# Altium footprint library SparkFun-DigitalIC.PCBLIB: 112 footprints (part 6 of 7)
Each footprint in its own frame and in the unit in brackets; x right, y up, seen from the top. Pads: shape width x height; smd on the part's side, far side on the other; paste and mask are expansions set on the pad; w line width, h text height; cw(c..) or ccw(c..) is an arc to the next point about the centre after c.
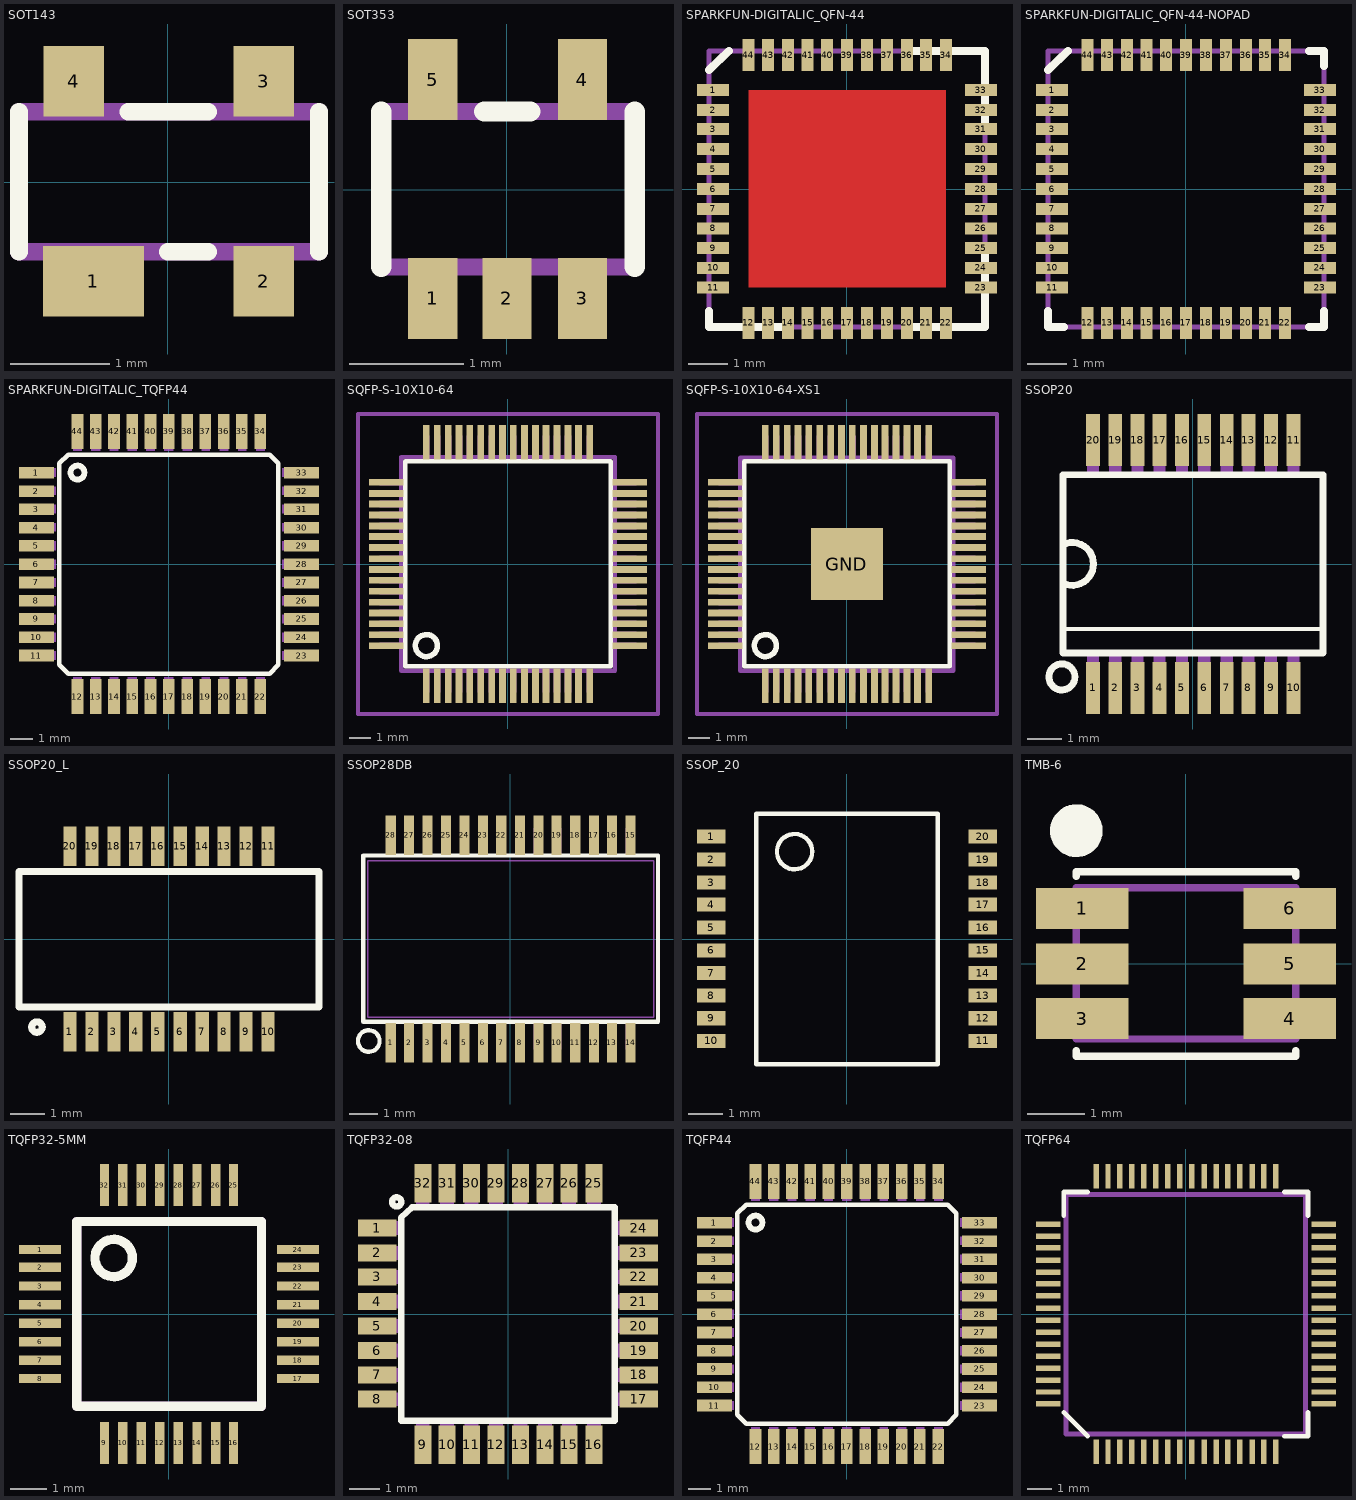
[diagram p5: the footprints below, top view; thin cyan lines are the x and y axes]

## SOT143 [mil]
pads (4):
  rect 40x28 smd: 1(-29.53,-39.37)
  rect 24x28 smd: 2(38,-39.37) 3(38,40) 4(-37.4,40)
Top Overlay:
  lines w7: -59.06,-27.56 -59.06,28 ; -15.75,28 16,28 ; 0,-27.56 16,-27.56 ; 60,-27.56 60,28
Mechanical 2:
  text ">Name" at -50,2 h24.8
Mechanical 4:
  text ">Value" at -50,-17.87 h24.8
Mechanical 16:
  lines w7: -59.06,-27.56 -59.06,28 60,28 60,-27.56 -59.06,-27.56

## SOT353 [mil]
pads (5):
  rect 17x28 smd: 1(-25.59,-37.4) 2(0,-37.4) 3(26,-37.4) 4(26,38) 5(-25.59,38)
Top Overlay:
  lines w7: -43.31,-26.57 -43.31,27 ; -7.87,27 8,27 ; 44,-26.57 44,27
Mechanical 2:
  text ">Name" at -50,-30 h24.8
Mechanical 4:
  text ">Value" at 65,-30 h24.8
Mechanical 16:
  rectangle: 20,28 32,44
  rectangle: -31.5,28 -19.68,44
  region: 32,-27.56 20,-27.56 20,-43.31 32,-43.31
  region: 6,-27.56 -5.91,-27.56 -5.91,-43.31 6,-43.31
  region: -19.69,-27.56 -31.5,-27.56 -31.5,-43.31 -19.69,-43.31
  lines w6: -43.31,-26.57 -43.31,27 44,27 44,-26.57 -43.31,-26.57

## SPARKFUN-DIGITALIC_QFN-44 [mil]
pads (44):
  rect 32x12 smd: 1(-133.86,99) 2(-133.86,79) 3(-133.86,60) 4(-133.86,40) 5(-133.86,20) 6(-133.86,0) 7(-133.86,-19.68) 8(-133.86,-39.37) 9(-133.86,-59.06) 10(-133.86,-78.74) 11(-133.86,-98.43) 23(134,-98.43) 24(134,-78.74) 25(134,-59.06) 26(134,-39.37) 27(134,-19.68) 28(134,0) 29(134,20) 30(134,40) 31(134,60) 32(134,79) 33(134,99)
  rect 12x32 smd: 12(-98.43,-133.86) 13(-78.74,-133.86) 14(-59.06,-133.86) 15(-39.37,-133.86) 16(-19.68,-133.86) 17(0,-133.86) 18(20,-133.86) 19(40,-133.86) 20(60,-133.86) 21(79,-133.86) 22(99,-133.86) 34(99,134) 35(79,134) 36(60,134) 37(40,134) 38(20,134) 39(0,134) 40(-19.68,134) 41(-39.37,134) 42(-59.06,134) 43(-78.74,134) 44(-98.43,134)
Top Layer:
  rectangle: -98.43,-98.43 99,99
Top Overlay:
  lines w8: -137.8,-122.05 -137.8,-137.8 -64.96,-137.8 ; -137.8,119 -118.11,138 ; 65,-137.8 138,-137.8 138,-64.96 ; 65,138 138,138 138,65
Top Solder:
  rectangle: -19.68,-19.68 20,20
Mechanical 2:
  text ">NAME" at -96.46,189 h77.5
Mechanical 4:
  text ">VALUE" at -98.43,-242.13 h77.5
Mechanical 16:
  lines w5: -137.8,-137.8 -137.8,138 138,138 138,-137.8 -133.86,-137.8

## SPARKFUN-DIGITALIC_QFN-44-NOPAD [mil]
pads (44):
  rect 32x12 smd: 1(-133.86,99) 2(-133.86,79) 3(-133.86,60) 4(-133.86,40) 5(-133.86,20) 6(-133.86,0) 7(-133.86,-19.68) 8(-133.86,-39.37) 9(-133.86,-59.06) 10(-133.86,-78.74) 11(-133.86,-98.43) 23(134,-98.43) 24(134,-78.74) 25(134,-59.06) 26(134,-39.37) 27(134,-19.68) 28(134,0) 29(134,20) 30(134,40) 31(134,60) 32(134,79) 33(134,99)
  rect 12x32 smd: 12(-98.43,-133.86) 13(-78.74,-133.86) 14(-59.06,-133.86) 15(-39.37,-133.86) 16(-19.68,-133.86) 17(0,-133.86) 18(20,-133.86) 19(40,-133.86) 20(60,-133.86) 21(79,-133.86) 22(99,-133.86) 34(99,134) 35(79,134) 36(60,134) 37(40,134) 38(20,134) 39(0,134) 40(-19.68,134) 41(-39.37,134) 42(-59.06,134) 43(-78.74,134) 44(-98.43,134)
Top Overlay:
  lines w8: -137.8,-122.05 -137.8,-137.8 -122.05,-137.8 ; -137.8,119 -118.11,138 ; 123,-137.8 138,-137.8 138,-122.05 ; 123,138 138,138 138,123
Mechanical 2:
  text ">NAME" at -96.46,189 h77.5
Mechanical 4:
  text ">VALUE" at -98.43,-242.13 h77.5
Mechanical 16:
  lines w5: -137.8,-137.8 -137.8,138 138,138 138,-137.8 -133.86,-137.8

## SPARKFUN-DIGITALIC_TQFP44 [mil]
pads (44):
  rect 60x20 smd: 1(-228.35,158) 2(-228.35,126) 3(-228.35,95) 4(-228.35,63) 5(-228.35,32) 6(-228.35,0) 7(-228.35,-31.5) 8(-228.35,-62.99) 9(-228.35,-94.49) 10(-228.35,-125.98) 11(-228.35,-157.48) 23(229,-157.48) 24(229,-125.98) 25(229,-94.49) 26(229,-62.99) 27(229,-31.5) 28(229,0) 29(229,32) 30(229,63) 31(229,95) 32(229,126) 33(229,158)
  rect 20x60 smd: 12(-157.48,-228.35) 13(-125.98,-228.35) 14(-94.49,-228.35) 15(-62.99,-228.35) 16(-31.5,-228.35) 17(0,-228.35) 18(32,-228.35) 19(63,-228.35) 20(95,-228.35) 21(126,-228.35) 22(158,-228.35) 34(158,229) 35(126,229) 36(95,229) 37(63,229) 38(32,229) 39(0,229) 40(-31.5,229) 41(-62.99,229) 42(-94.49,229) 43(-125.98,229) 44(-157.48,229)
Top Overlay:
  circle w10: c-157.48,158 r12
  lines w8: -188.98,-173.23 -173.23,-188.98 174,-188.98 189,-173.23 189,174 174,189 -173.23,189 -188.98,174 -188.98,-173.23
Mechanical 2:
  text ">NAME" at -160,110 h24.8
Mechanical 4:
  text ">VALUE" at -160,-160 h24.8
Mechanical 16:
  rectangle: -240.16,150 -194.88,166
  rectangle: -240.16,119 -194.88,134
  rectangle: -240.16,87 -194.88,103
  rectangle: -240.16,56 -194.88,71
  rectangle: -240.16,24 -194.88,40
  rectangle: -240.16,-7.87 -194.88,8
  rectangle: -240.16,-39.37 -194.88,-23.62
  rectangle: -240.16,-70.87 -194.88,-55.12
  rectangle: -240.16,-102.36 -194.88,-86.61
  rectangle: -240.16,-133.86 -194.88,-118.11
  rectangle: -240.16,-165.35 -194.88,-149.61
  rectangle: -165.35,-240.16 -149.61,-194.88
  rectangle: -133.86,-240.16 -118.11,-194.88
  rectangle: -102.36,-240.16 -86.61,-194.88
  rectangle: -70.87,-240.16 -55.12,-194.88
  rectangle: -39.37,-240.16 -23.62,-194.88
  rectangle: -7.87,-240.16 8,-194.88
  rectangle: 24,-240.16 40,-194.88
  rectangle: 56,-240.16 71,-194.88
  rectangle: 87,-240.16 103,-194.88
  rectangle: 119,-240.16 134,-194.88
  rectangle: 150,-240.16 166,-194.88
  rectangle: 195,-165.35 241,-149.61
  rectangle: 195,-133.86 241,-118.11
  rectangle: 195,-102.36 241,-86.61
  rectangle: 195,-70.87 241,-55.12
  rectangle: 195,-39.37 241,-23.62
  rectangle: 195,-7.87 241,8
  rectangle: 195,24 241,40
  rectangle: 195,56 241,71
  rectangle: 195,87 241,103
  rectangle: 195,119 241,134
  rectangle: 195,150 241,166
  rectangle: 150,195 166,241
  rectangle: 119,195 134,241
  rectangle: 87,195 103,241
  rectangle: 56,195 71,241
  rectangle: 24,195 40,241
  rectangle: -7.87,195 8,241
  rectangle: -39.37,195 -23.62,241
  rectangle: -70.87,195 -55.12,241
  rectangle: -102.36,195 -86.61,241
  rectangle: -133.86,195 -118.11,241
  rectangle: -165.35,195 -149.61,241

## SQFP-S-10X10-64 [mil]
pads (64):
  rect 12x63 smd: 1(-147.64,-220.47) 2(-127.95,-220.47) 3(-108.27,-220.47) 4(-88.58,-220.47) 5(-68.9,-220.47) 6(-49.21,-220.47) 7(-29.53,-220.47) 8(-9.84,-220.47) 9(10,-220.47) 10(30,-220.47) 11(50,-220.47) 12(69,-220.47) 13(89,-220.47) 14(109,-220.47) 15(128,-220.47) 16(148,-220.47) 33(148,221) 34(128,221) 35(109,221) 36(89,221) 37(69,221) 38(50,221) 39(30,221) 40(10,221) 41(-9.84,221) 42(-29.53,221) 43(-49.21,221) 44(-68.9,221) 45(-88.58,221) 46(-108.27,221) 47(-127.95,221) 48(-147.64,221)
  rect 63x12 smd: 17(221,-147.64) 18(221,-127.95) 19(221,-108.27) 20(221,-88.58) 21(221,-68.9) 22(221,-49.21) 23(221,-29.53) 24(221,-9.84) 25(221,10) 26(221,30) 27(221,50) 28(221,69) 29(221,89) 30(221,109) 31(221,128) 32(221,148) 49(-220.47,148) 50(-220.47,128) 51(-220.47,109) 52(-220.47,89) 53(-220.47,69) 54(-220.47,50) 55(-220.47,30) 56(-220.47,10) 57(-220.47,-9.84) 58(-220.47,-29.53) 59(-220.47,-49.21) 60(-220.47,-68.9) 61(-220.47,-88.58) 62(-220.47,-108.27) 63(-220.47,-127.95) 64(-220.47,-147.64)
Top Overlay:
  circle w10: c-147.64,-147.64 r20
  lines w8: -185.83,-185.43 186,-185.43 186,186 -185.83,186 -185.83,-185.43
Top Paste:
  rectangle: -238.9,143 -198.7,153
  rectangle: -248.3,123 -208.1,134
  rectangle: -238.9,103 -198.7,114
  rectangle: -248.3,84 -208.1,94
  rectangle: -238.9,64 -198.7,75
  rectangle: -248.3,44 -208.1,55
  rectangle: -238.9,25 -198.7,36
  rectangle: -248.3,5 -208.1,16
  rectangle: -238.9,-15.2 -198.7,-4.5
  rectangle: -248.3,-34.9 -208.1,-24.2
  rectangle: -238.9,-54.5 -198.7,-43.8
  rectangle: -248.3,-74.2 -208.1,-63.5
  rectangle: -238.9,-93.9 -198.7,-83.2
  rectangle: -248.3,-113.6 -208.1,-102.9
  rectangle: -238.9,-133.2 -198.7,-122.5
  rectangle: -248.3,-152.9 -208.1,-142.2
  rectangle: 209,143 249,153
  rectangle: 199,123 239,134
  rectangle: 209,103 249,114
  rectangle: 199,84 239,94
  rectangle: 209,64 249,75
  rectangle: 199,44 239,55
  rectangle: 209,25 249,35
  rectangle: 199,5 239,16
  rectangle: 209,-15.3 249,-4.6
  rectangle: 199,-35 239,-24.3
  rectangle: 209,-54.6 249,-43.9
  rectangle: 199,-74.3 239,-63.6
  rectangle: 209,-94 249,-83.3
  rectangle: 199,-113.7 239,-103
  rectangle: 209,-133.3 249,-122.6
  rectangle: 199,-153 239,-142.3
  region: -142.55,208.9 -142.55,249.1 -152.55,249.1 -152.55,208.9
  region: -122.35,199.4 -122.35,239.6 -133.35,239.6 -133.35,199.4
  region: -103.15,208.9 -103.15,249.1 -113.15,249.1 -113.15,208.9
  region: -82.95,199.4 -82.95,239.6 -93.95,239.6 -93.95,199.4
  region: -63.85,208.9 -63.85,249.1 -73.85,249.1 -73.85,208.9
  region: -43.65,199.4 -43.65,239.6 -54.65,239.6 -54.65,199.4
  region: -24.65,208.9 -24.65,249.1 -34.65,249.1 -34.65,208.9
  region: -4.02,198.98 -4.02,240.02 -15.02,240.02 -15.02,198.98
  region: 15.43,208.43 15.43,249.57 5.43,249.57 5.43,208.43
  region: 35.5,199.5 35.5,239.5 24.5,239.5 24.5,199.5
  region: 55,209 55,249 45,249 45,209
  region: 75,199 75,240 64,240 64,199
  region: 94,209 94,249 84,249 84,209
  region: 114.5,199.5 114.5,239.5 103.5,239.5 103.5,199.5
  region: 133.5,208.5 133.5,249.5 123.5,249.5 123.5,208.5
  region: 153.5,199.5 153.5,239.5 142.5,239.5 142.5,199.5
  region: -142.3,-237.5 -142.3,-197.3 -153,-197.3 -153,-237.5
  region: -122.6,-246.9 -122.6,-206.7 -133.3,-206.7 -133.3,-246.9
  region: -102.9,-237.5 -102.9,-197.3 -113.6,-197.3 -113.6,-237.5
  region: -83.2,-246.9 -83.2,-206.7 -93.9,-206.7 -93.9,-246.9
  region: -63.6,-237.5 -63.6,-197.3 -74.3,-197.3 -74.3,-237.5
  region: -43.9,-246.9 -43.9,-206.7 -54.6,-206.7 -54.6,-246.9
  region: -24.4,-237.5 -24.4,-197.3 -35.1,-197.3 -35.1,-237.5
  region: -4.22,-247.37 -4.22,-206.23 -14.92,-206.23 -14.92,-247.37
  region: 15.23,-237.53 15.23,-197.28 4.53,-197.28 4.53,-237.53
  region: 35.35,-246.8 35.35,-206.8 24.65,-206.8 24.65,-246.8
  region: 55.35,-237.4 55.35,-197.4 44.65,-197.4 44.65,-237.4
  region: 74.35,-246.8 74.35,-206.8 63.65,-206.8 63.65,-246.8
  region: 94.35,-237.4 94.35,-197.4 83.65,-197.4 83.65,-237.4
  region: 114.35,-246.8 114.35,-206.8 103.65,-206.8 103.65,-246.8
  region: 133.35,-237.4 133.35,-197.4 122.65,-197.4 122.65,-237.4
  region: 153.35,-246.8 153.35,-206.8 142.65,-206.8 142.65,-246.8
Mechanical 2:
  text ">NAME" at -150,-50 h24.8
Mechanical 4:
  text ">VALUE" at -150,50 h24.8
Mechanical 16:
  rectangle: -153.54,-232.28 -141.73,-194.88
  rectangle: -133.86,-232.28 -122.05,-194.88
  rectangle: -114.17,-232.28 -102.36,-194.88
  rectangle: -94.49,-232.28 -82.68,-194.88
  rectangle: -74.8,-232.28 -62.99,-194.88
  rectangle: -55.12,-232.28 -43.31,-194.88
  rectangle: -35.43,-232.28 -23.62,-194.88
  rectangle: -15.75,-232.28 -3.94,-194.88
  rectangle: 4,-232.28 16,-194.88
  rectangle: 24,-232.28 36,-194.88
  rectangle: 44,-232.28 56,-194.88
  rectangle: 63,-232.28 75,-194.88
  rectangle: 83,-232.28 95,-194.88
  rectangle: 103,-232.28 115,-194.88
  rectangle: 123,-232.28 134,-194.88
  rectangle: 142,-232.28 154,-194.88
  rectangle: 195,-153.54 233,-141.73
  rectangle: 195,-133.86 233,-122.05
  rectangle: 195,-114.17 233,-102.36
  rectangle: 195,-94.49 233,-82.68
  rectangle: 195,-74.8 233,-62.99
  rectangle: 195,-55.12 233,-43.31
  rectangle: 195,-35.43 233,-23.62
  rectangle: 195,-15.75 233,-3.94
  rectangle: 195,4 233,16
  rectangle: 195,24 233,36
  rectangle: 195,44 233,56
  rectangle: 195,63 233,75
  rectangle: 195,83 233,95
  rectangle: 195,103 233,115
  rectangle: 195,123 233,134
  rectangle: 195,142 233,154
  rectangle: 142,195 154,233
  rectangle: 123,195 134,233
  rectangle: 103,195 115,233
  rectangle: 83,195 95,233
  rectangle: 63,195 75,233
  rectangle: 44,195 56,233
  rectangle: 24,195 36,233
  rectangle: 4,195 16,233
  rectangle: -15.75,195 -3.94,233
  rectangle: -35.43,195 -23.62,233
  rectangle: -55.12,195 -43.31,233
  rectangle: -74.8,195 -62.99,233
  rectangle: -94.49,195 -82.68,233
  rectangle: -114.17,195 -102.36,233
  rectangle: -133.86,195 -122.05,233
  rectangle: -153.54,195 -141.73,233
  rectangle: -232.28,142 -194.88,154
  rectangle: -232.28,123 -194.88,134
  rectangle: -232.28,103 -194.88,115
  rectangle: -232.28,83 -194.88,95
  rectangle: -232.28,63 -194.88,75
  rectangle: -232.28,44 -194.88,56
  rectangle: -232.28,24 -194.88,36
  rectangle: -232.28,4 -194.88,16
  rectangle: -232.28,-15.75 -194.88,-3.94
  rectangle: -232.28,-35.43 -194.88,-23.62
  rectangle: -232.28,-55.12 -194.88,-43.31
  rectangle: -232.28,-74.8 -194.88,-62.99
  rectangle: -232.28,-94.49 -194.88,-82.68
  rectangle: -232.28,-114.17 -194.88,-102.36
  rectangle: -232.28,-133.86 -194.88,-122.05
  rectangle: -232.28,-153.54 -194.88,-141.73
  lines w8: -193.31,-193.31 194,-193.31 194,194 -193.31,194 -193.31,-193.31
Mechanical 27:
  lines w8: -271.65,-271.65 -271.65,272 272,272 272,-271.65 -271.65,-271.65

## SQFP-S-10X10-64-XS1 [mil]
pads (65):
  rect 12x63 smd: 1(-147.64,-220.47) 2(-127.95,-220.47) 3(-108.27,-220.47) 4(-88.58,-220.47) 5(-68.9,-220.47) 6(-49.21,-220.47) 7(-29.53,-220.47) 8(-9.84,-220.47) 9(10,-220.47) 10(30,-220.47) 11(50,-220.47) 12(69,-220.47) 13(89,-220.47) 14(109,-220.47) 15(128,-220.47) 16(148,-220.47) 33(148,221) 34(128,221) 35(109,221) 36(89,221) 37(69,221) 38(50,221) 39(30,221) 40(10,221) 41(-9.84,221) 42(-29.53,221) 43(-49.21,221) 44(-68.9,221) 45(-88.58,221) 46(-108.27,221) 47(-127.95,221) 48(-147.64,221)
  rect 63x12 smd: 17(221,-147.64) 18(221,-127.95) 19(221,-108.27) 20(221,-88.58) 21(221,-68.9) 22(221,-49.21) 23(221,-29.53) 24(221,-9.84) 25(221,10) 26(221,30) 27(221,50) 28(221,69) 29(221,89) 30(221,109) 31(221,128) 32(221,148) 49(-220.47,148) 50(-220.47,128) 51(-220.47,109) 52(-220.47,89) 53(-220.47,69) 54(-220.47,50) 55(-220.47,30) 56(-220.47,10) 57(-220.47,-9.84) 58(-220.47,-29.53) 59(-220.47,-49.21) 60(-220.47,-68.9) 61(-220.47,-88.58) 62(-220.47,-108.27) 63(-220.47,-127.95) 64(-220.47,-147.64)
  rect 130x130 smd: GND(0,0)
Top Overlay:
  circle w10: c-147.64,-147.64 r20
  lines w8: -185.83,-185.43 186,-185.43 186,186 -185.83,186 -185.83,-185.43
Top Paste:
  rectangle: -238.9,143 -198.7,153
  rectangle: -248.3,123 -208.1,134
  rectangle: -238.9,103 -198.7,114
  rectangle: -248.3,84 -208.1,94
  rectangle: -238.9,64 -198.7,75
  rectangle: -248.3,44 -208.1,55
  rectangle: -238.9,25 -198.7,36
  rectangle: -248.3,5 -208.1,16
  rectangle: -238.9,-15.2 -198.7,-4.5
  rectangle: -248.3,-34.9 -208.1,-24.2
  rectangle: -238.9,-54.5 -198.7,-43.8
  rectangle: -248.3,-74.2 -208.1,-63.5
  rectangle: -238.9,-93.9 -198.7,-83.2
  rectangle: -248.3,-113.6 -208.1,-102.9
  rectangle: -238.9,-133.2 -198.7,-122.5
  rectangle: -248.3,-152.9 -208.1,-142.2
  rectangle: 209,143 249,153
  rectangle: 199,123 239,134
  rectangle: 209,103 249,114
  rectangle: 199,84 239,94
  rectangle: 209,64 249,75
  rectangle: 199,44 239,55
  rectangle: 209,25 249,35
  rectangle: 199,5 239,16
  rectangle: 209,-15.3 249,-4.6
  rectangle: 199,-35 239,-24.3
  rectangle: 209,-54.6 249,-43.9
  rectangle: 199,-74.3 239,-63.6
  rectangle: 209,-94 249,-83.3
  rectangle: 199,-113.7 239,-103
  rectangle: 209,-133.3 249,-122.6
  rectangle: 199,-153 239,-142.3
  region: -142.55,208.9 -142.55,249.1 -152.55,249.1 -152.55,208.9
  region: -122.35,199.4 -122.35,239.6 -133.35,239.6 -133.35,199.4
  region: -103.15,208.9 -103.15,249.1 -113.15,249.1 -113.15,208.9
  region: -82.95,199.4 -82.95,239.6 -93.95,239.6 -93.95,199.4
  region: -63.85,208.9 -63.85,249.1 -73.85,249.1 -73.85,208.9
  region: -43.65,199.4 -43.65,239.6 -54.65,239.6 -54.65,199.4
  region: -24.65,208.9 -24.65,249.1 -34.65,249.1 -34.65,208.9
  region: -4.02,198.98 -4.02,240.02 -15.02,240.02 -15.02,198.98
  region: 15.43,208.43 15.43,249.57 5.43,249.57 5.43,208.43
  region: 35.5,199.5 35.5,239.5 24.5,239.5 24.5,199.5
  region: 55,209 55,249 45,249 45,209
  region: 75,199 75,240 64,240 64,199
  region: 94,209 94,249 84,249 84,209
  region: 114.5,199.5 114.5,239.5 103.5,239.5 103.5,199.5
  region: 133.5,208.5 133.5,249.5 123.5,249.5 123.5,208.5
  region: 153.5,199.5 153.5,239.5 142.5,239.5 142.5,199.5
  region: -142.3,-237.5 -142.3,-197.3 -153,-197.3 -153,-237.5
  region: -122.6,-246.9 -122.6,-206.7 -133.3,-206.7 -133.3,-246.9
  region: -102.9,-237.5 -102.9,-197.3 -113.6,-197.3 -113.6,-237.5
  region: -83.2,-246.9 -83.2,-206.7 -93.9,-206.7 -93.9,-246.9
  region: -63.6,-237.5 -63.6,-197.3 -74.3,-197.3 -74.3,-237.5
  region: -43.9,-246.9 -43.9,-206.7 -54.6,-206.7 -54.6,-246.9
  region: -24.4,-237.5 -24.4,-197.3 -35.1,-197.3 -35.1,-237.5
  region: -4.22,-247.37 -4.22,-206.23 -14.92,-206.23 -14.92,-247.37
  region: 15.23,-237.53 15.23,-197.28 4.53,-197.28 4.53,-237.53
  region: 35.35,-246.8 35.35,-206.8 24.65,-206.8 24.65,-246.8
  region: 55.35,-237.4 55.35,-197.4 44.65,-197.4 44.65,-237.4
  region: 74.35,-246.8 74.35,-206.8 63.65,-206.8 63.65,-246.8
  region: 94.35,-237.4 94.35,-197.4 83.65,-197.4 83.65,-237.4
  region: 114.35,-246.8 114.35,-206.8 103.65,-206.8 103.65,-246.8
  region: 133.35,-237.4 133.35,-197.4 122.65,-197.4 122.65,-237.4
  region: 153.35,-246.8 153.35,-206.8 142.65,-206.8 142.65,-246.8
Mechanical 16:
  rectangle: -232.28,83 -188.98,95
  rectangle: -232.28,103 -188.98,115
  rectangle: -232.28,142 -188.98,154
  rectangle: -232.28,123 -188.98,134
  rectangle: -232.28,4 -188.98,16
  rectangle: -232.28,24 -188.98,36
  rectangle: -232.28,63 -188.98,75
  rectangle: -232.28,44 -188.98,56
  rectangle: -232.28,-74.8 -188.98,-62.99
  rectangle: -232.28,-55.12 -188.98,-43.31
  rectangle: -232.28,-15.75 -188.98,-3.94
  rectangle: -232.28,-35.43 -188.98,-23.62
  rectangle: -232.28,-153.54 -188.98,-141.73
  rectangle: -232.28,-133.86 -188.98,-122.05
  rectangle: -232.28,-94.49 -188.98,-82.68
  rectangle: -232.28,-114.17 -188.98,-102.36
  region: -82.68,-232.28 -82.68,-188.98 -94.49,-188.98 -94.49,-232.28
  region: -102.36,-232.28 -102.36,-188.98 -114.17,-188.98 -114.17,-232.28
  region: -141.73,-232.28 -141.73,-188.98 -153.54,-188.98 -153.54,-232.28
  region: -122.05,-232.28 -122.05,-188.98 -133.86,-188.98 -133.86,-232.28
  region: -3.84,-232.38 -3.84,-188.88 -15.65,-188.88 -15.65,-232.38
  region: -23.62,-232.28 -23.62,-188.98 -35.43,-188.98 -35.43,-232.28
  region: -62.99,-232.28 -62.99,-188.98 -74.8,-188.98 -74.8,-232.28
  region: -43.31,-232.28 -43.31,-188.98 -55.12,-188.98 -55.12,-232.28
  region: 75.41,-232.13 75.41,-189.13 63.59,-189.13 63.59,-232.13
  region: 55.41,-232.13 55.41,-189.13 43.59,-189.13 43.59,-232.13
  region: 16,-232.54 16,-188.72 4.19,-188.72 4.19,-232.54
  region: 35.91,-232.63 35.91,-188.63 24.09,-188.63 24.09,-232.63
  region: 153.91,-232.63 153.91,-188.63 142.09,-188.63 142.09,-232.63
  region: 134.41,-232.13 134.41,-189.13 122.59,-189.13 122.59,-232.13
  region: 94.91,-232.63 94.91,-188.63 83.09,-188.63 83.09,-232.63
  region: 114.41,-232.13 114.41,-189.13 102.59,-189.13 102.59,-232.13
  rectangle: 189,83 233,95
  rectangle: 189,103 233,115
  rectangle: 189,142 233,154
  rectangle: 189,123 233,134
  rectangle: 189,4 233,16
  rectangle: 189,24 233,36
  rectangle: 189,63 233,75
  rectangle: 189,44 233,56
  rectangle: 189,-74.8 233,-62.99
  rectangle: 189,-55.12 233,-43.31
  rectangle: 189,-15.75 233,-3.94
  rectangle: 189,-35.43 233,-23.62
  rectangle: 189,-153.54 233,-141.73
  rectangle: 189,-133.86 233,-122.05
  rectangle: 189,-94.49 233,-82.68
  rectangle: 189,-114.17 233,-102.36
  region: -82.58,189.35 -82.58,232.65 -94.58,232.65 -94.58,189.35
  region: -102.27,189.35 -102.27,232.65 -114.27,232.65 -114.27,189.35
  region: -141.64,189.35 -141.64,232.65 -153.64,232.65 -153.64,189.35
  region: -121.95,189.35 -121.95,232.65 -133.95,232.65 -133.95,189.35
  region: -3.75,189.25 -3.75,232.75 -15.75,232.75 -15.75,189.25
  region: -23.53,189.35 -23.53,232.65 -35.53,232.65 -35.53,189.35
  region: -62.9,189.35 -62.9,232.65 -74.9,232.65 -74.9,189.35
  region: -43.21,189.35 -43.21,232.65 -55.21,232.65 -55.21,189.35
  region: 75.5,189.5 75.5,232.5 63.5,232.5 63.5,189.5
  region: 55.5,189.5 55.5,232.5 43.5,232.5 43.5,189.5
  region: 16.09,189.09 16.09,232.91 4.09,232.91 4.09,189.09
  region: 36,189 36,233 24,233 24,189
  region: 154,189 154,233 142,233 142,189
  region: 134.5,189.5 134.5,232.5 122.5,232.5 122.5,189.5
  region: 95,189 95,233 83,233 83,189
  region: 114.5,189.5 114.5,232.5 102.5,232.5 102.5,189.5
  lines w5: -192.91,189 -192.91,193
  lines w8: -192.91,-192.91 -192.91,193 193,193 193,-192.91 -192.91,-192.91
Mechanical 27:
  lines w8: -271.65,-271.65 -271.65,272 272,272 272,-271.65 -271.65,-271.65

## SSOP20 [mil]
pads (20):
  rect 16x60 smd: 1(-115.16,-142.72) 2(-89.57,-142.72) 3(-63.98,-142.72) 4(-38.39,-142.72) 5(-12.8,-142.72) 6(13,-142.72) 7(39,-142.72) 8(64,-142.72) 9(90,-142.72) 10(116,-142.72) 11(116,143) 12(90,143) 13(64,143) 14(39,143) 15(13,143) 16(-12.8,143) 17(-38.39,143) 18(-63.98,143) 19(-89.57,143) 20(-115.16,143)
Top Overlay:
  circle w8: c-151,-130 r15
  lines w5: -150.59,102 -149.61,102 ; -145.67,-74.8 150,-74.8
  lines w8: -145.67,-23.62 ccw(c-139.29,0.19) -145.67,24 ; -149.61,-102.36 -149.61,102 -149.61,103 150,103 150,-74.8 150,-102.36 -149.61,-102.36
Mechanical 2:
  text ">NAME" at 0,0 h24.8
Mechanical 4:
  text ">VALUE" at 0,-50 h24.8
Mechanical 16:
  rectangle: -122.16,-155 -108.16,-104
  rectangle: -96.57,-155 -82.57,-104
  rectangle: -70.98,-155 -56.98,-104
  rectangle: -45.39,-155 -31.39,-104
  rectangle: -19.8,-155 -5.8,-104
  rectangle: 6,-155 20,-104
  rectangle: 32,-155 46,-104
  rectangle: 57,-155 71,-104
  rectangle: 83,-155 97,-104
  rectangle: 109,-155 123,-104
  rectangle: 109,104 123,155
  rectangle: 83,104 97,155
  rectangle: 57,104 71,155
  rectangle: 32,104 46,155
  rectangle: 6,104 20,155
  rectangle: -19.79,104 -5.79,155
  rectangle: -45.38,104 -31.38,155
  rectangle: -70.97,104 -56.97,155
  rectangle: -96.56,104 -82.56,155
  rectangle: -122.15,104 -108.15,155

## SSOP20_L [mil]
pads (20):
  rect 15x45 smd: 1(-112.5,-105.5) 2(-87.5,-105.5) 3(-62.5,-105.5) 4(-37.5,-105.5) 5(-12.5,-105.5) 6(13,-105.5) 7(38,-105.5) 8(63,-105.5) 9(88,-105.5) 10(113,-105.5) 11(113,106) 12(88,106) 13(63,106) 14(38,106) 15(13,106) 16(-12.5,106) 17(-37.5,106) 18(-62.5,106) 19(-87.5,106) 20(-112.5,106)
Top Overlay:
  circle w8: c-150,-100 r6
  lines w8: -170.5,-77 171,-77 171,77 -170.5,77 -170.5,-77
Mechanical 2:
  text ">NAME" at 0,0 h24.8
Mechanical 4:
  text ">VALUE" at 0,-50 h24.8
Mechanical 16:
  rectangle: 8,-117.5 18,-92.5
  rectangle: 33,-117.5 43,-92.5
  rectangle: 58,-117.5 68,-92.5
  rectangle: 83,-117.5 93,-92.5
  rectangle: 108,-117.5 118,-92.5
  rectangle: -17.5,-117.5 -7.5,-92.5
  rectangle: -42.5,-117.5 -32.5,-92.5
  rectangle: -67.5,-117.5 -57.5,-92.5
  rectangle: -92.5,-117.5 -82.5,-92.5
  rectangle: -117.5,-117.5 -107.5,-92.5
  region: -7.5,118 -17.5,118 -17.5,93 -7.5,93
  region: -32.5,118 -42.5,118 -42.5,93 -32.5,93
  region: -57.5,118 -67.5,118 -67.5,93 -57.5,93
  region: -82.5,118 -92.5,118 -92.5,93 -82.5,93
  region: -107.5,118 -117.5,118 -117.5,93 -107.5,93
  region: 18,118 8,118 8,93 18,93
  region: 43,118 33,118 33,93 43,93
  region: 68,118 58,118 58,93 68,93
  region: 93,118 83,118 83,93 93,93
  region: 118,118 108,118 108,93 118,93

## SSOP28DB [mil]
pads (28):
  rect 14x55 smd: 1(-166.34,-143.94) 2(-140.75,-143.94) 3(-115.16,-143.94) 4(-89.57,-143.94) 5(-63.98,-143.94) 6(-38.39,-143.94) 7(-12.8,-143.94) 8(13,-143.94) 9(39,-143.94) 10(64,-143.94) 11(90,-143.94) 12(116,-143.94) 13(141,-143.94) 14(167,-143.94) 15(167,144) 16(141,144) 17(116,144) 18(90,144) 19(64,144) 20(39,144) 21(13,144) 22(-12.8,144) 23(-38.39,144) 24(-63.98,144) 25(-89.57,144) 26(-115.16,144) 27(-140.75,144) 28(-166.34,144)
Top Overlay:
  circle w6: c-196.85,-141.73 r15
  lines w6: -204.72,-115.16 205,-115.16 205,116 -204.72,116 -204.72,-115.16
Mechanical 2:
  text ">NAME" at -150,50 h24.8
Mechanical 4:
  lines w2: -198.35,-108.78 199,-108.78 199,109 -198.35,109 -198.35,-108.78
  text ">VALUE" at -150,0 h24.8
Mechanical 16:
  rectangle: -172.74,117 -159.94,154
  rectangle: -172.74,-153.54 -159.94,-116.76
  rectangle: -147.15,-153.54 -134.35,-116.76
  rectangle: -121.56,-153.54 -108.76,-116.76
  rectangle: -147.15,117 -134.35,154
  rectangle: -121.56,117 -108.76,154
  rectangle: -95.96,117 -83.17,154
  rectangle: -70.37,117 -57.58,154
  rectangle: -44.78,117 -31.99,154
  rectangle: -19.19,117 -6.4,154
  rectangle: 7,117 20,154
  rectangle: 32,117 45,154
  rectangle: 58,117 71,154
  rectangle: 84,117 96,154
  rectangle: 109,117 122,154
  rectangle: 135,117 148,154
  rectangle: 160,117 173,154
  rectangle: -95.96,-153.54 -83.17,-116.76
  rectangle: -70.37,-153.54 -57.58,-116.76
  rectangle: -44.78,-153.54 -31.99,-116.76
  rectangle: -19.19,-153.54 -6.4,-116.76
  rectangle: 7,-153.54 20,-116.76
  rectangle: 32,-153.54 45,-116.76
  rectangle: 58,-153.54 71,-116.76
  rectangle: 84,-153.54 96,-116.76
  rectangle: 109,-153.54 122,-116.76
  rectangle: 135,-153.54 148,-116.76
  rectangle: 160,-153.54 173,-116.76

## SSOP_20 [mil]
pads (20):
  rect 32x16 smd: 1(-153.54,116) 2(-153.54,90) 3(-153.54,64) 4(-153.54,39) 5(-153.54,13) 6(-153.54,-12.8) 7(-153.54,-38.39) 8(-153.54,-63.98) 9(-153.54,-89.57) 10(-153.54,-115.16) 11(154,-115.16) 12(154,-89.57) 13(154,-63.98) 14(154,-38.39) 15(154,-12.8) 16(154,13) 17(154,39) 18(154,64) 19(154,90) 20(154,116)
Top Overlay:
  circle w5: c-59.06,99 r20
  lines w5: -102.36,-141.73 103,-141.73 103,142 -102.36,142 -102.36,-141.73
Mechanical 2:
  text ">NAME" at -100,-175 h24.8
Mechanical 4:
  text ">VALUE" at -100,-200 h24.8

## TMB-6 [mil]
pads (6):
  rect 63x28 smd: 1(-70.87,38) 2(-70.87,0) 3(-70.87,-37.4) 4(71,-37.4) 5(71,0) 6(71,38)
Top Overlay:
  circle w12: c-74.8,91 r12
  circle w12: c-74.8,91 r4
  circle w12: c-74.8,91 r8
  lines w5: -74.8,-59.06 -74.8,-62.99 75,-62.99 75,-59.06 ; -74.8,60 -74.8,63 75,63 75,60
Mechanical 2:
  text ">NAME" at 0,73 h24.8
Mechanical 4:
  text ">VALUE" at 0,-76.77 h24.8
Mechanical 16:
  lines w5: -74.8,-51.18 -74.8,52 75,52 75,-51.18 -74.8,-51.18

## TQFP32-5MM [mil]
pads (32):
  rect 45x10 smd: 1(-137.8,69) 2(-137.8,50) 3(-137.8,30) 4(-137.8,10) 5(-137.8,-9.84) 6(-137.8,-29.53) 7(-137.8,-49.21) 8(-137.8,-68.9) 17(138,-68.9) 18(138,-49.21) 19(138,-29.53) 20(138,-9.84) 21(138,10) 22(138,30) 23(138,50) 24(138,69)
  rect 10x45 smd: 9(-68.9,-137.8) 10(-49.21,-137.8) 11(-29.53,-137.8) 12(-9.84,-137.8) 13(10,-137.8) 14(30,-137.8) 15(50,-137.8) 16(69,-137.8) 25(69,138) 26(50,138) 27(30,138) 28(10,138) 29(-9.84,138) 30(-29.53,138) 31(-49.21,138) 32(-68.9,138)
Top Overlay:
  circle w10: c-59.06,60 r20
  lines w10: -98.43,-98.43 99,-98.43 99,99 -98.43,99 -98.43,-98.43
Mechanical 2:
  text ">Name" at 50,-200 h49.6
Mechanical 4:
  text ">Value" at -150,-200 h49.6
Mechanical 16:
  lines w10: -98.43,-98.43 99,-98.43 99,99 -98.43,99 -98.43,-98.43

## TQFP32-08 [mil]
pads (32):
  rect 50x22 smd: 1(-169,111) 2(-169,79) 3(-169,48) 4(-169,16) 5(-169,-15.75) 6(-169,-47.24) 7(-169,-78.74) 8(-169,-110.24) 17(169,-110.24) 18(169,-78.74) 19(169,-47.24) 20(169,-15.75) 21(169,16) 22(169,48) 23(169,79) 24(169,111)
  rect 22x50 smd: 9(-110.24,-169) 10(-78.74,-169) 11(-47.24,-169) 12(-15.75,-169) 13(16,-169) 14(48,-169) 15(79,-169) 16(111,-169) 25(111,169) 26(79,169) 27(48,169) 28(16,169) 29(-15.75,169) 30(-47.24,169) 31(-78.74,169) 32(-110.24,169)
Top Overlay:
  circle w8: c-144,145 r6
  lines w8: -137.99,-137.99 138,-137.99 138,138 -124.02,138 -137.99,125 -137.99,-137.99
Mechanical 2:
  text ">NAME" at -125,200 h24.8
Mechanical 4:
  text ">VALUE" at -100,-250 h24.8
Mechanical 16:
  rectangle: -179,102 -140,120
  rectangle: -179,70 -140,88
  rectangle: -179,39 -140,57
  rectangle: -179,7 -140,25
  rectangle: -179,-24.75 -140,-6.75
  rectangle: -179,-56.24 -140,-38.24
  rectangle: -179,-87.74 -140,-69.74
  rectangle: -179,-119.24 -140,-101.24
  rectangle: -119.24,-179 -101.24,-140
  rectangle: -87.74,-179 -69.74,-140
  rectangle: -56.24,-179 -38.24,-140
  rectangle: -24.75,-179 -6.75,-140
  rectangle: 7,-179 25,-140
  rectangle: 39,-179 57,-140
  rectangle: 70,-179 88,-140
  rectangle: 102,-179 120,-140
  rectangle: 140,-119.24 179,-101.24
  rectangle: 140,-87.74 179,-69.74
  rectangle: 140,-56.24 179,-38.24
  rectangle: 140,-24.75 179,-6.75
  rectangle: 140,7 179,25
  rectangle: 140,39 179,57
  rectangle: 140,70 179,88
  rectangle: 140,102 179,120
  rectangle: 102,140 120,179
  rectangle: 70,140 88,179
  rectangle: 39,140 57,179
  rectangle: 7,140 25,179
  rectangle: -24.75,140 -6.75,179
  rectangle: -56.24,140 -38.24,179
  rectangle: -87.74,140 -69.74,179
  rectangle: -119.24,140 -101.24,179

## TQFP44 [mil]
pads (44):
  rect 60x20 smd: 1(-228.35,158) 2(-228.35,126) 3(-228.35,95) 4(-228.35,63) 5(-228.35,32) 6(-228.35,0) 7(-228.35,-31.5) 8(-228.35,-62.99) 9(-228.35,-94.49) 10(-228.35,-125.98) 11(-228.35,-157.48) 23(229,-157.48) 24(229,-125.98) 25(229,-94.49) 26(229,-62.99) 27(229,-31.5) 28(229,0) 29(229,32) 30(229,63) 31(229,95) 32(229,126) 33(229,158)
  rect 20x60 smd: 12(-157.48,-228.35) 13(-125.98,-228.35) 14(-94.49,-228.35) 15(-62.99,-228.35) 16(-31.5,-228.35) 17(0,-228.35) 18(32,-228.35) 19(63,-228.35) 20(95,-228.35) 21(126,-228.35) 22(158,-228.35) 34(158,229) 35(126,229) 36(95,229) 37(63,229) 38(32,229) 39(0,229) 40(-31.5,229) 41(-62.99,229) 42(-94.49,229) 43(-125.98,229) 44(-157.48,229)
Top Overlay:
  circle w10: c-157.48,158 r12
  lines w8: -188.98,-173.23 -173.23,-188.98 174,-188.98 189,-173.23 189,174 174,189 -173.23,189 -188.98,174 -188.98,-173.23
Mechanical 2:
  text ">NAME" at -160,110 h24.8
Mechanical 4:
  text ">VALUE" at -160,-160 h24.8
Mechanical 16:
  rectangle: -240.16,150 -194.88,166
  rectangle: -240.16,119 -194.88,134
  rectangle: -240.16,87 -194.88,103
  rectangle: -240.16,56 -194.88,71
  rectangle: -240.16,24 -194.88,40
  rectangle: -240.16,-7.87 -194.88,8
  rectangle: -240.16,-39.37 -194.88,-23.62
  rectangle: -240.16,-70.87 -194.88,-55.12
  rectangle: -240.16,-102.36 -194.88,-86.61
  rectangle: -240.16,-133.86 -194.88,-118.11
  rectangle: -240.16,-165.35 -194.88,-149.61
  rectangle: -165.35,-240.16 -149.61,-194.88
  rectangle: -133.86,-240.16 -118.11,-194.88
  rectangle: -102.36,-240.16 -86.61,-194.88
  rectangle: -70.87,-240.16 -55.12,-194.88
  rectangle: -39.37,-240.16 -23.62,-194.88
  rectangle: -7.87,-240.16 8,-194.88
  rectangle: 24,-240.16 40,-194.88
  rectangle: 56,-240.16 71,-194.88
  rectangle: 87,-240.16 103,-194.88
  rectangle: 119,-240.16 134,-194.88
  rectangle: 150,-240.16 166,-194.88
  rectangle: 195,-165.35 241,-149.61
  rectangle: 195,-133.86 241,-118.11
  rectangle: 195,-102.36 241,-86.61
  rectangle: 195,-70.87 241,-55.12
  rectangle: 195,-39.37 241,-23.62
  rectangle: 195,-7.87 241,8
  rectangle: 195,24 241,40
  rectangle: 195,56 241,71
  rectangle: 195,87 241,103
  rectangle: 195,119 241,134
  rectangle: 195,150 241,166
  rectangle: 150,195 166,241
  rectangle: 119,195 134,241
  rectangle: 87,195 103,241
  rectangle: 56,195 71,241
  rectangle: 24,195 40,241
  rectangle: -7.87,195 8,241
  rectangle: -39.37,195 -23.62,241
  rectangle: -70.87,195 -55.12,241
  rectangle: -102.36,195 -86.61,241
  rectangle: -133.86,195 -118.11,241
  rectangle: -165.35,195 -149.61,241

## TQFP64 [mil]
pads (64):
  rect 9x40 smd: 1(-147.64,-226.38) 2(-127.95,-226.38) 3(-108.27,-226.38) 4(-88.58,-226.38) 5(-68.9,-226.38) 6(-49.21,-226.38) 7(-29.53,-226.38) 8(-9.84,-226.38) 9(10,-226.38) 10(30,-226.38) 11(50,-226.38) 12(69,-226.38) 13(89,-226.38) 14(109,-226.38) 15(128,-226.38) 16(148,-226.38) 33(148,227) 34(128,227) 35(109,227) 36(89,227) 37(69,227) 38(50,227) 39(30,227) 40(10,227) 41(-9.84,227) 42(-29.53,227) 43(-49.21,227) 44(-68.9,227) 45(-88.58,227) 46(-108.27,227) 47(-127.95,227) 48(-147.64,227)
  rect 40x9 smd: 17(227,-147.64) 18(227,-127.95) 19(227,-108.27) 20(227,-88.58) 21(227,-68.9) 22(227,-49.21) 23(227,-29.53) 24(227,-9.84) 25(227,10) 26(227,30) 27(227,50) 28(227,69) 29(227,89) 30(227,109) 31(227,128) 32(227,148) 49(-226.38,148) 50(-226.38,128) 51(-226.38,109) 52(-226.38,89) 53(-226.38,69) 54(-226.38,50) 55(-226.38,30) 56(-226.38,10) 57(-226.38,-9.84) 58(-226.38,-29.53) 59(-226.38,-49.21) 60(-226.38,-68.9) 61(-226.38,-88.58) 62(-226.38,-108.27) 63(-226.38,-127.95) 64(-226.38,-147.64)
Top Overlay:
  lines w8: -200.79,-161.42 -161.42,-200.79 ; -200.79,162 -200.79,201 -161.42,201 ; 162,-200.79 201,-200.79 201,-161.42 ; 162,201 201,201 201,162
Mechanical 2:
  text ">NAME" at -118.11,119 h24.8
Mechanical 4:
  text ">VALUE" at -118.11,-118.11 h24.8
Mechanical 16:
  lines w8: -196.85,-196.85 197,-196.85 197,197 -196.85,197 -196.85,-196.85